# Altium integrated library MOSFET_IRFZ44N.IntLib: 1 symbol
Pins are listed as number, name and electrical type; pins without a type are passive.

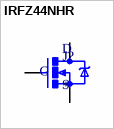
[diagram p0: symbol IRFZ44NHR]

## IRFZ44NHR
designator J?
Infineon; MP: IRFZ44NHR; Package: None; Price: None; MF: Infineon; Availability: Not in stock; Value: *; Check_prices: https://www.snapeda.com/parts/IRFZ44NHR/Infineon/view-part/?ref=eda; SnapEDA_Link: https://www.snapeda.com/parts/IRFZ44NHR/Infineon/view-part/?ref=snap
footprint TO-220
pins: 1 G, 2 D, 3 S